# EAGLE library part AP63203WU (library pimoroni-ics)
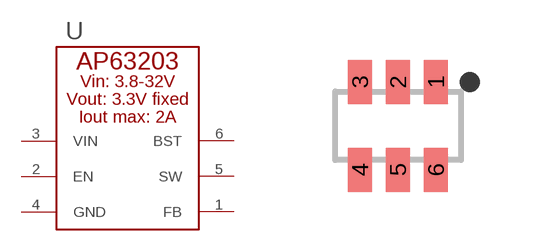
[diagram p174: symbol with the pads of SOT-23-6; footprint SOT-23-6]

Designator prefix U

## AP63203WU  [SOT-23-6]
1  FB
2  EN
3  VIN
4  GND
5  SW
6  BST

## Footprint SOT-23-6 (pad centres in mm)
smd 0.6 x 1.1: 1 0.95,1.1; 2 0,1.1; 3 -0.95,1.1; 4 -0.95,-1.1; 5 0,-1.1; 6 0.95,-1.1